# Altium schematic symbol library STLQ020J33R.SchLib: 1 symbol
Pins are listed as number, name and electrical type; pins without a type are passive.

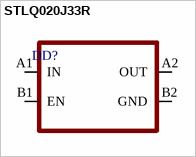
[diagram p0: symbol STLQ020J33R]

## STLQ020J33R
designator DD?
pins: A1 IN, A2 OUT, B1 EN, B2 GND